# EAGLE library part STF202-22T1G (library Filters)
FILTER RC(PI) 22 OHM/68PF SMD Manufacturer's datasheet <https://www.onsemi.com/pub/Collateral/STF202-22T1-D.PDF>
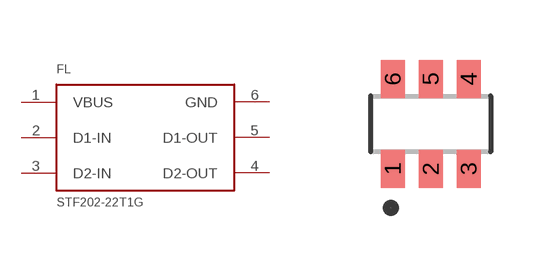
[diagram p4: symbol with the pads of STF202-22T1G; footprint STF202-22T1G]

Designator prefix FL

## STF202-22T1G (CREATED_BY: PCBLayout.com; DIGIKEY_PN: STF202-22T1GOSTR-ND; MANUFACTURER: ON Semiconductor; MPN: STF202-22T1G; PACKAGE: SOT-457)  [STF202-22T1G]
1  VBUS  pwr
2  D1-IN  in
3  D2-IN  in
4  D2-OUT  out
5  D1-OUT  out
6  GND  pwr

## Footprint STF202-22T1G (pad centres in mm)
smd 0.6 x 0.95: 1 -0.95,-1.125; 2 0,-1.125; 3 0.95,-1.125; 4 0.95,1.125; 5 0,1.125; 6 -0.95,1.125